# Altium footprint library PcbLib1.PcbLib: 1 footprints
Each footprint in its own frame and in the unit in brackets; x right, y up, seen from the top. Pads: shape width x height; smd on the part's side, far side on the other; paste and mask are expansions set on the pad; w line width, h text height; cw(c..) or ccw(c..) is an arc to the next point about the centre after c.
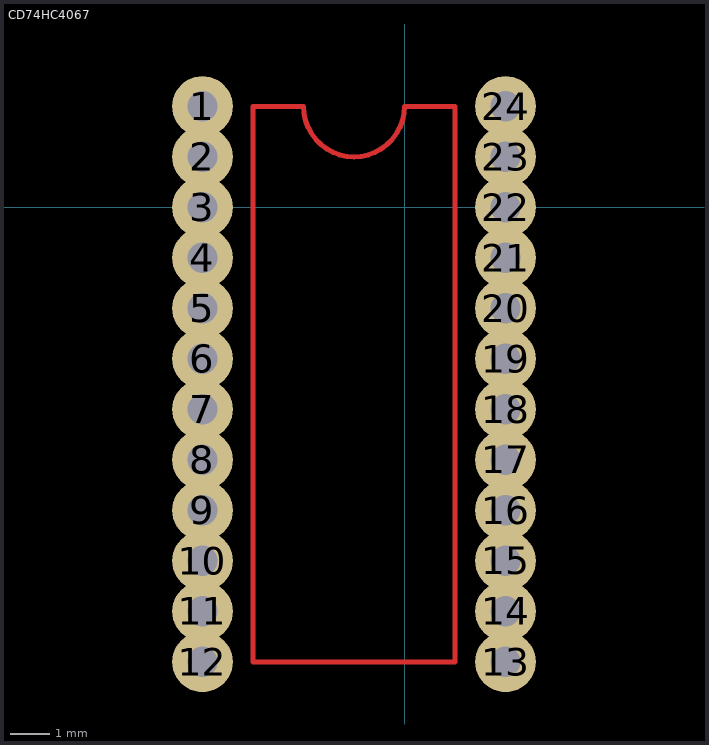
[diagram p0: the footprint, top view; thin cyan lines are the x and y axes]

## CD74HC4067 [mil] "High-Speed CMOS Logic  16-Channel Analog Multiplexer/Demultiplexer"
pads (24):
  round 60 hole 30: 1(-200,100) 2(-200,50) 3(-200,0) 4(-200,-50) 5(-200,-100) 6(-200,-150) 7(-200,-200) 8(-200,-250) 9(-200,-300) 10(-200,-350) 11(-200,-400) 12(-200,-450) 13(100,-450) 14(100,-400) 15(100,-350) 16(100,-300) 17(100,-250) 18(100,-200) 19(100,-150) 20(100,-100) 21(100,-50) 22(100,0) 23(100,50) 24(100,100)
Top Layer:
  pour cut-out: 100,0
  lines w5: -150,-450 -150,-100 -150,0 -150,100 -100,100 ccw(c-50,100) -50,50 ccw(c-50,100) 0,100 50,100 50,-450 -150,-450